# EAGLE library part BCM5221KPT (library circuit_tree)
IC
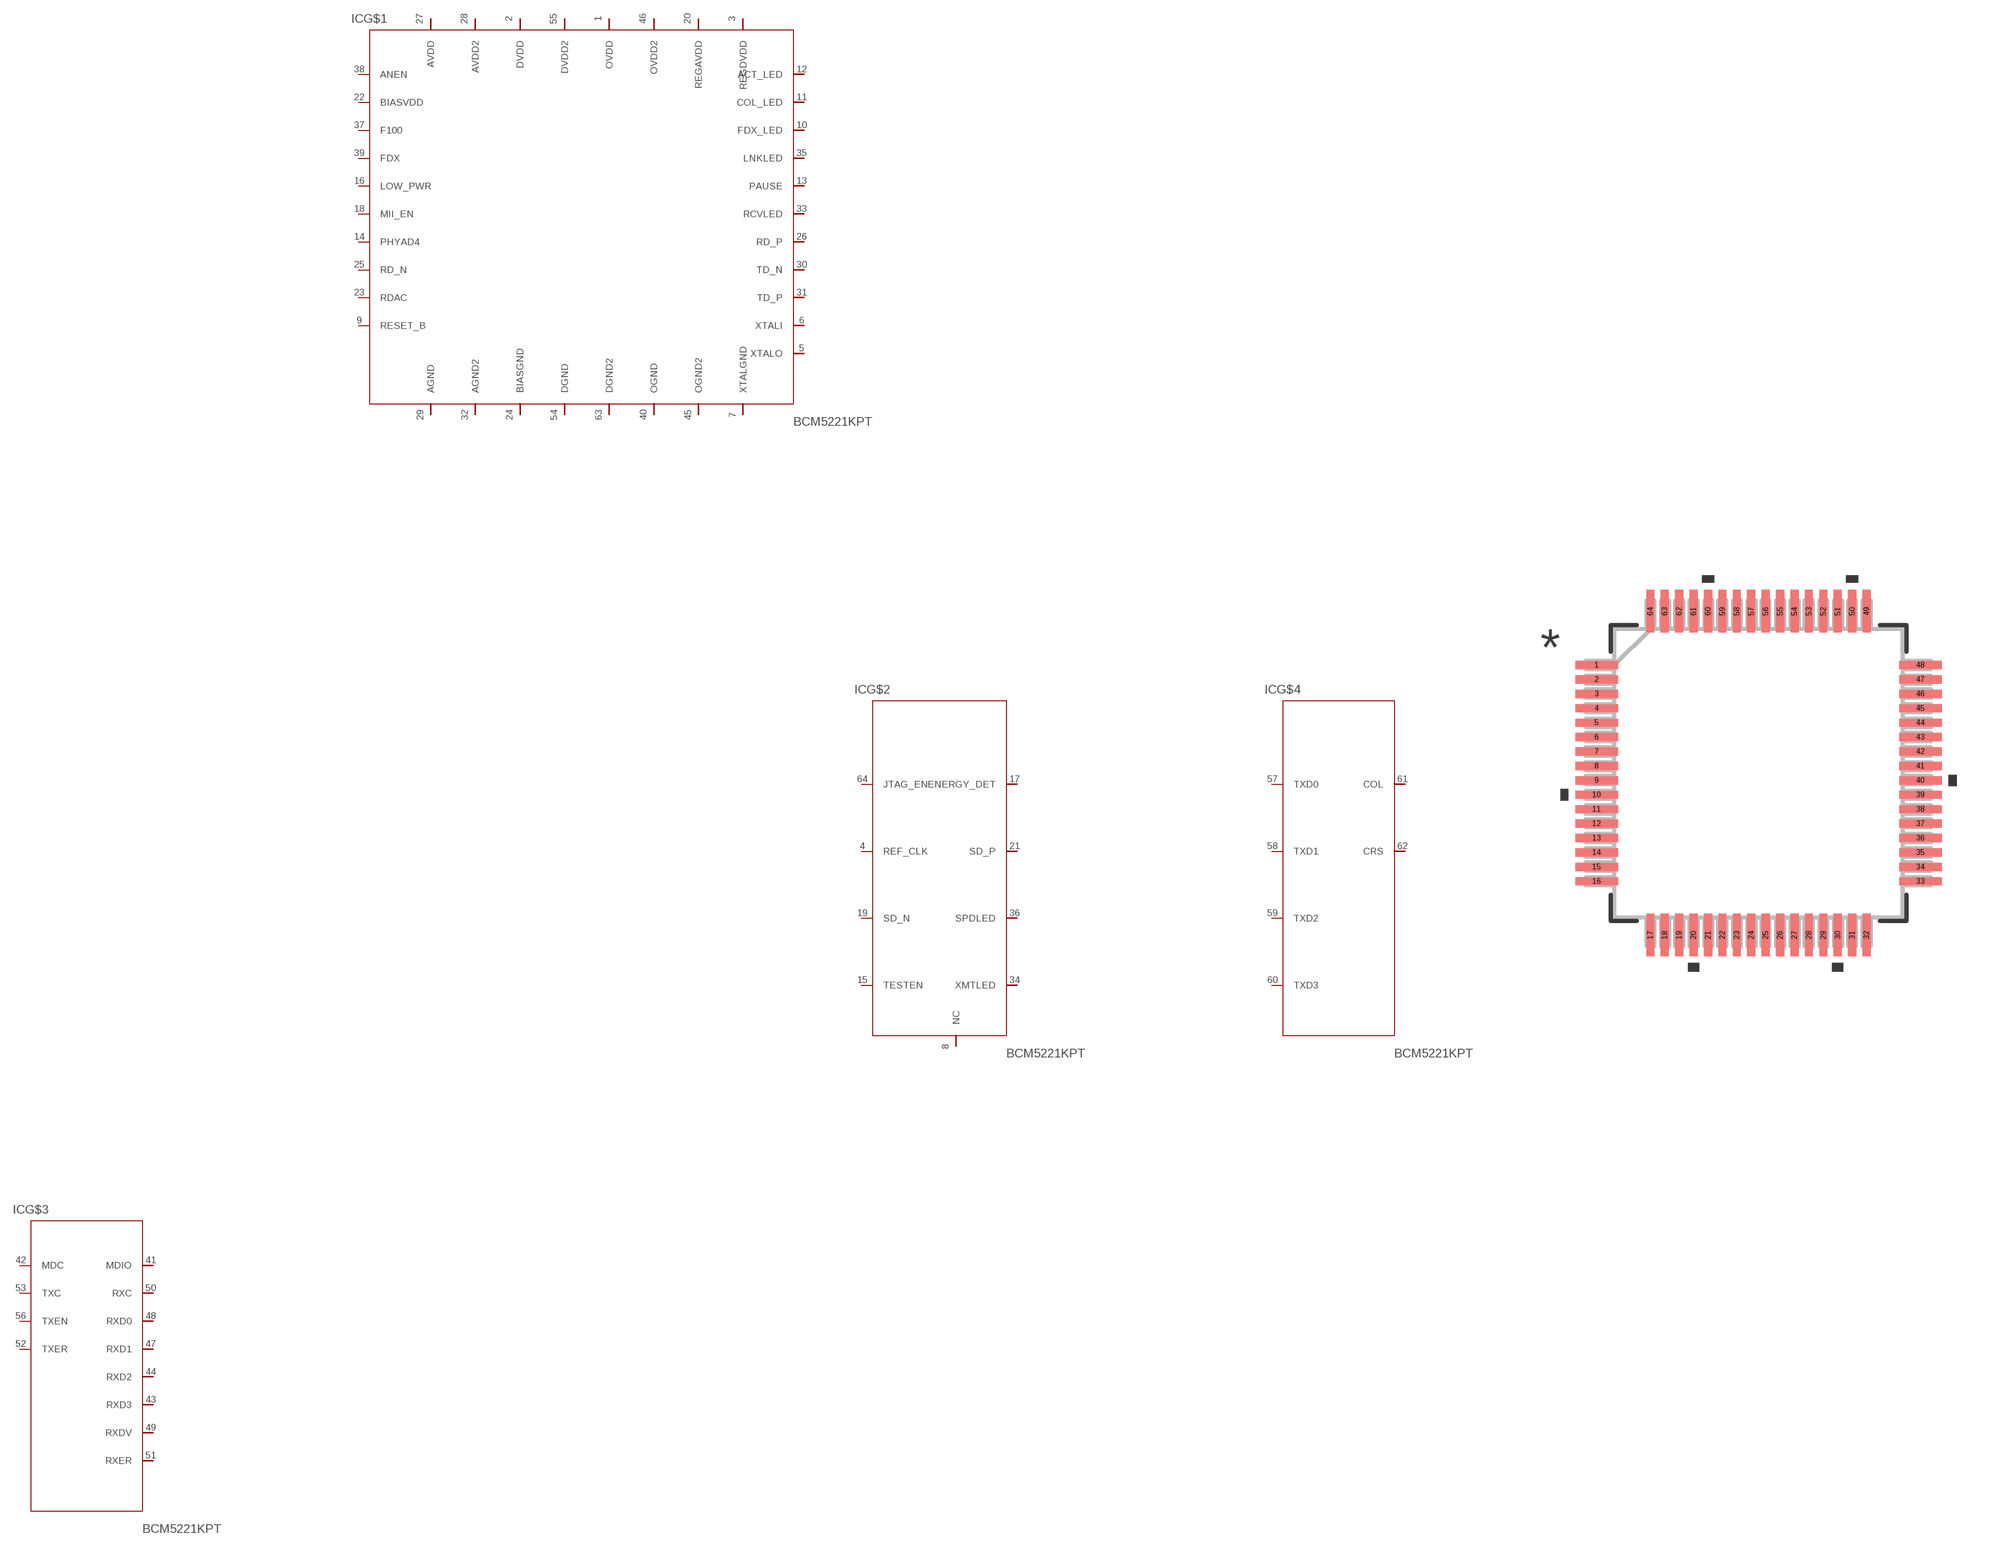
[diagram p3: symbol with the pads of TQFP64_10X10MC; footprint TQFP64_10X10MC]

Designator prefix IC; gates G$1=BCM5221KPT G$2=BCM5221KPT2 G$3=BCM5221KPT3 G$4=BCM5221KPT4

## BCM5221KPT  [TQFP64_10X10MC]
1  G$1:OVDD  pas
2  G$1:DVDD  pas
3  G$1:REGDVDD  pas
4  G$2:REF_CLK  pas
5  G$1:XTALO  pas
6  G$1:XTALI  pas
7  G$1:XTALGND  pas
8  G$2:NC  pas
9  G$1:RESET_B  pas
10  G$1:FDX_LED  pas
11  G$1:COL_LED  pas
12  G$1:ACT_LED  pas
13  G$1:PAUSE  pas
14  G$1:PHYAD4  pas
15  G$2:TESTEN  pas
16  G$1:LOW_PWR  pas
17  G$2:ENERGY_DET  pas
18  G$1:MII_EN  pas
19  G$2:SD_N  pas
20  G$1:REGAVDD  pas
21  G$2:SD_P  pas
22  G$1:BIASVDD  pas
23  G$1:RDAC  pas
24  G$1:BIASGND  pas
25  G$1:RD_N  pas
26  G$1:RD_P  pas
27  G$1:AVDD  pas
28  G$1:AVDD2  pas
29  G$1:AGND  pas
30  G$1:TD_N  pas
31  G$1:TD_P  pas
32  G$1:AGND2  pas
33  G$1:RCVLED  pas
34  G$2:XMTLED  pas
35  G$1:LNKLED  pas
36  G$2:SPDLED  pas
37  G$1:F100  pas
38  G$1:ANEN  pas
39  G$1:FDX  pas
40  G$1:OGND  pas
41  G$3:MDIO  pas
42  G$3:MDC  pas
43  G$3:RXD3  pas
44  G$3:RXD2  pas
45  G$1:OGND2  pas
46  G$1:OVDD2  pas
47  G$3:RXD1  pas
48  G$3:RXD0  pas
49  G$3:RXDV  pas
50  G$3:RXC  pas
51  G$3:RXER  pas
52  G$3:TXER  pas
53  G$3:TXC  pas
54  G$1:DGND  pas
55  G$1:DVDD2  pas
56  G$3:TXEN  pas
57  G$4:TXD0  pas
58  G$4:TXD1  pas
59  G$4:TXD2  pas
60  G$4:TXD3  pas
61  G$4:COL  pas
62  G$4:CRS  pas
63  G$1:DGND2  pas
64  G$2:JTAG_EN  pas

## Footprint TQFP64_10X10MC (pad centres in mm)
smd 1.473 x 0.279: 1 -5.613,3.75; 2 -5.613,3.25; 3 -5.613,2.75; 4 -5.613,2.25; 5 -5.613,1.75; 6 -5.613,1.25; 7 -5.613,0.75; 8 -5.613,0.25; 9 -5.613,-0.25; 10 -5.613,-0.75; 11 -5.613,-1.25; 12 -5.613,-1.75; 13 -5.613,-2.25; 14 -5.613,-2.75; 15 -5.613,-3.25; 16 -5.613,-3.75; 33 5.613,-3.75; 34 5.613,-3.25; 35 5.613,-2.75; 36 5.613,-2.25; 37 5.613,-1.75; 38 5.613,-1.25; 39 5.613,-0.75; 40 5.613,-0.25; 41 5.613,0.25; 42 5.613,0.75; 43 5.613,1.25; 44 5.613,1.75; 45 5.613,2.25; 46 5.613,2.75; 47 5.613,3.25; 48 5.613,3.75
smd 0.279 x 1.473: 17 -3.75,-5.613; 18 -3.25,-5.613; 19 -2.75,-5.613; 20 -2.25,-5.613; 21 -1.75,-5.613; 22 -1.25,-5.613; 23 -0.75,-5.613; 24 -0.25,-5.613; 25 0.25,-5.613; 26 0.75,-5.613; 27 1.25,-5.613; 28 1.75,-5.613; 29 2.25,-5.613; 30 2.75,-5.613; 31 3.25,-5.613; 32 3.75,-5.613; 49 3.75,5.613; 50 3.25,5.613; 51 2.75,5.613; 52 2.25,5.613; 53 1.75,5.613; 54 1.25,5.613; 55 0.75,5.613; 56 0.25,5.613; 57 -0.25,5.613; 58 -0.75,5.613; 59 -1.25,5.613; 60 -1.75,5.613; 61 -2.25,5.613; 62 -2.75,5.613; 63 -3.25,5.613; 64 -3.75,5.613